# EAGLE library part LP2988 (library NASA_LIB)
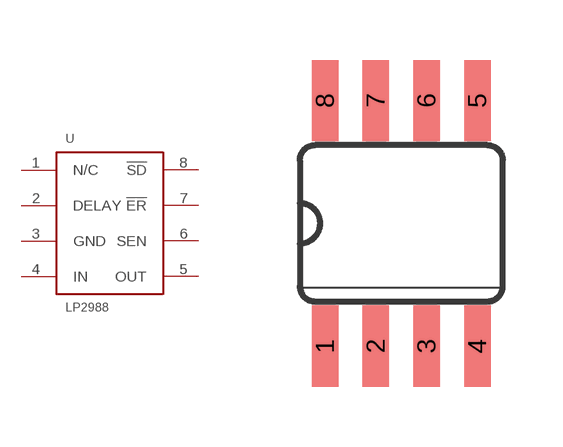
[diagram p8: symbol with the pads of SO08; footprint SO08]

Designator prefix -

## LP2988  [SO08]
1  N/C
2  DELAY
3  GND
4  IN
5  OUT
6  SEN
7  !ER
8  !SD

## Footprint SO08 (pad centres in mm)
smd 0.66 x 2.032: 1 -1.905,-3.073; 2 -0.635,-3.073; 3 0.635,-3.073; 4 1.905,-3.073; 5 1.905,3.073; 6 0.635,3.073; 7 -0.635,3.073; 8 -1.905,3.073